# Altium footprint library Phoenix.PcbLib: 19 footprints (part 2 of 2)
Each footprint in its own frame and in the unit in brackets; x right, y up, seen from the top. Pads: shape width x height; smd on the part's side, far side on the other; paste and mask are expansions set on the pad; w line width, h text height; cw(c..) or ccw(c..) is an arc to the next point about the centre after c.
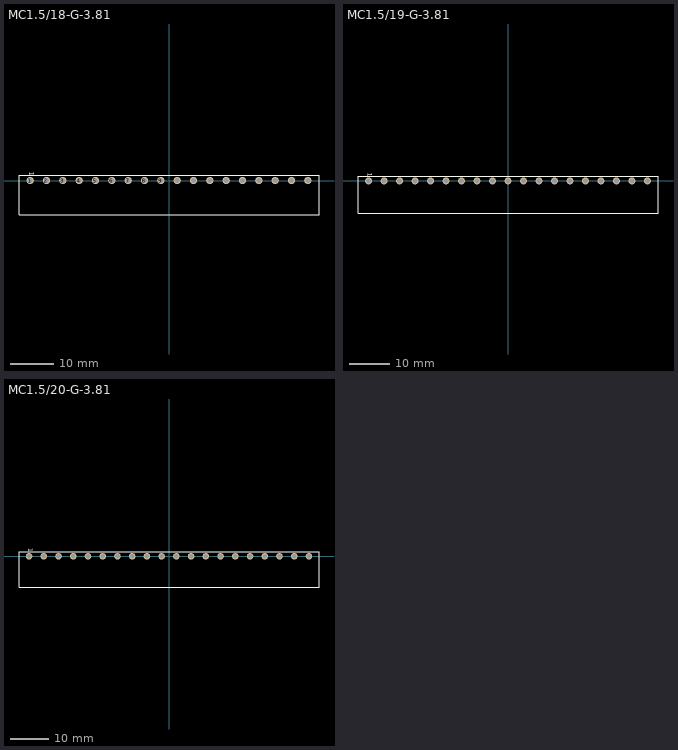
[diagram p1: the footprints below, top view; thin cyan lines are the x and y axes]

## MC1.5/18-G-3.81 [mm] "Phoenix contact MC 1,5/ 18-G-3,81"
pads (18):
  round 1.7 hole 1.2: 1(-32.385,0) 2(-28.575,0) 3(-24.765,0) 4(-20.955,0) 5(-17.145,0) 6(-13.335,0) 7(-9.525,0) 8(-5.715,0) 9(-1.905,0) 10(1.905,0) 11(5.715,0) 12(9.525,0) 13(13.335,0) 14(17.145,0) 15(20.955,0) 16(24.765,0) 17(28.575,0) 18(32.385,0)
Top Overlay:
  lines w0.2: -34.985,-8 -34.29,-8 -30.48,-8 -26.67,-8 -22.86,-8 -19.05,-8 -15.24,-8 -11.43,-8 -7.62,-8 -3.81,-8 0,-8 3.81,-8 7.62,-8 11.43,-8 15.24,-8 19.05,-8 22.86,-8 26.67,-8 30.48,-8 34.29,-8 34.985,-8 34.985,1.2 34.29,1.2 30.48,1.2 26.67,1.2 22.86,1.2 19.05,1.2 15.24,1.2 11.43,1.2 7.62,1.2 3.81,1.2 0,1.2 -3.81,1.2 -7.62,1.2 -11.43,1.2 -15.24,1.2 -19.05,1.2 -22.86,1.2 -26.67,1.2 -30.48,1.2 -34.29,1.2 -34.985,1.2 -34.985,-8
  text "1" at -33.028,2.036 h2
Bottom Overlay:
  text "1" at -33.028,1.064 h2
3D body: height 7.26, standoff 0.01, extent 30.48,-8 34.29,-1
3D body: height 3, standoff -3.4, extent 31.985,-0.4 32.785,0.4
3D body: height 3.4, standoff 2.6, extent 31.985,-7 32.785,0.4
3D body: height 7.25, standoff 0, extent 30.48,-1 34.29,1.2
3D body: height 7.26, standoff 0.01, extent 26.67,-8 30.48,-1
3D body: height 3, standoff -3.4, extent 28.175,-0.4 28.975,0.4
3D body: height 3.4, standoff 2.6, extent 28.175,-7 28.975,0.4
3D body: height 7.25, standoff 0, extent 26.67,-1 30.48,1.2
3D body: height 7.26, standoff 0.01, extent 22.86,-8 26.67,-1
3D body: height 3, standoff -3.4, extent 24.365,-0.4 25.165,0.4
3D body: height 3.4, standoff 2.6, extent 24.365,-7 25.165,0.4
3D body: height 7.25, standoff 0, extent 22.86,-1 26.67,1.2
3D body: height 7.26, standoff 0.01, extent 19.05,-8 22.86,-1
3D body: height 3, standoff -3.4, extent 20.555,-0.4 21.355,0.4
3D body: height 3.4, standoff 2.6, extent 20.555,-7 21.355,0.4
3D body: height 7.25, standoff 0, extent 19.05,-1 22.86,1.2
3D body: height 7.26, standoff 0.01, extent 15.24,-8 19.05,-1
3D body: height 3, standoff -3.4, extent 16.745,-0.4 17.545,0.4
3D body: height 3.4, standoff 2.6, extent 16.745,-7 17.545,0.4
3D body: height 7.25, standoff 0, extent 15.24,-1 19.05,1.2
3D body: height 7.25, standoff 0, extent 34.29,-8 34.985,1.2
3D body: height 7.26, standoff 0.01, extent 7.62,-8 11.43,-1
3D body: height 3, standoff -3.4, extent 9.125,-0.4 9.925,0.4
3D body: height 3.4, standoff 2.6, extent 9.125,-7 9.925,0.4
3D body: height 7.25, standoff 0, extent 7.62,-1 11.43,1.2
3D body: height 7.26, standoff 0.01, extent 3.81,-8 7.62,-1
3D body: height 3, standoff -3.4, extent 5.315,-0.4 6.115,0.4
3D body: height 3.4, standoff 2.6, extent 5.315,-7 6.115,0.4
3D body: height 7.25, standoff 0, extent 3.81,-1 7.62,1.2
3D body: height 7.26, standoff 0.01, extent 0,-8 3.81,-1
3D body: height 3, standoff -3.4, extent 1.505,-0.4 2.305,0.4
3D body: height 3.4, standoff 2.6, extent 1.505,-7 2.305,0.4
3D body: height 7.25, standoff 0, extent 0,-1 3.81,1.2
3D body: height 7.26, standoff 0.01, extent -3.81,-8 0,-1
3D body: height 3, standoff -3.4, extent -2.305,-0.4 -1.505,0.4
3D body: height 3.4, standoff 2.6, extent -2.305,-7 -1.505,0.4
3D body: height 7.25, standoff 0, extent -3.81,-1 0,1.2
3D body: height 7.26, standoff 0.01, extent -11.43,-8 -7.62,-1
3D body: height 3, standoff -3.4, extent -9.925,-0.4 -9.125,0.4
3D body: height 3.4, standoff 2.6, extent -9.925,-7 -9.125,0.4
3D body: height 7.25, standoff 0, extent -11.43,-1 -7.62,1.2
3D body: height 7.26, standoff 0.01, extent -15.24,-8 -11.43,-1
3D body: height 3, standoff -3.4, extent -13.735,-0.4 -12.935,0.4
3D body: height 3.4, standoff 2.6, extent -13.735,-7 -12.935,0.4
3D body: height 7.25, standoff 0, extent -15.24,-1 -11.43,1.2
3D body: height 7.26, standoff 0.01, extent -22.86,-8 -19.05,-1
3D body: height 3, standoff -3.4, extent -21.355,-0.4 -20.555,0.4
3D body: height 3.4, standoff 2.6, extent -21.355,-7 -20.555,0.4
3D body: height 7.25, standoff 0, extent -22.86,-1 -19.05,1.2
3D body: height 7.26, standoff 0.01, extent -26.67,-8 -22.86,-1
3D body: height 3, standoff -3.4, extent -25.165,-0.4 -24.365,0.4
3D body: height 3.4, standoff 2.6, extent -25.165,-7 -24.365,0.4
3D body: height 7.25, standoff 0, extent -26.67,-1 -22.86,1.2
3D body: height 7.26, standoff 0.01, extent -30.48,-8 -26.67,-1
3D body: height 3, standoff -3.4, extent -32.785,-0.4 -31.985,0.4
3D body: height 3, standoff -3.4, extent -28.975,-0.4 -28.175,0.4
3D body: height 3.4, standoff 2.6, extent -32.785,-7 -31.985,0.4
3D body: height 3.4, standoff 2.6, extent -28.975,-7 -28.175,0.4
3D body: height 7.25, standoff 0, extent -30.48,-1 -26.67,1.2
3D body: height 7.26, standoff 0.01, extent -34.29,-8 -30.48,-1
3D body: height 7.25, standoff 0, extent -34.29,-1 -30.48,1.2
3D body: height 7.25, standoff 0, extent -34.985,-8 -34.29,1.2
3D body: height 7.26, standoff 0.01, extent -19.05,-8 -15.24,-1
3D body: height 3, standoff -3.4, extent -17.545,-0.4 -16.745,0.4
3D body: height 3.4, standoff 2.6, extent -17.545,-7 -16.745,0.4
3D body: height 7.25, standoff 0, extent -19.05,-1 -15.24,1.2
3D body: height 7.26, standoff 0.01, extent -7.62,-8 -3.81,-1
3D body: height 3, standoff -3.4, extent -6.115,-0.4 -5.315,0.4
3D body: height 3.4, standoff 2.6, extent -6.115,-7 -5.315,0.4
3D body: height 7.25, standoff 0, extent -7.62,-1 -3.81,1.2
3D body: height 7.26, standoff 0.01, extent 11.43,-8 15.24,-1
3D body: height 3, standoff -3.4, extent 12.935,-0.4 13.735,0.4
3D body: height 3.4, standoff 2.6, extent 12.935,-7 13.735,0.4
3D body: height 7.25, standoff 0, extent 11.43,-1 15.24,1.2

## MC1.5/19-G-3.81 [mm] "Phoenix contact MC 1,5/ 19-G-3,81"
pads (19):
  round 1.7 hole 1.2: 1(-34.29,0) 2(-30.48,0) 3(-26.67,0) 4(-22.86,0) 5(-19.05,0) 6(-15.24,0) 7(-11.43,0) 8(-7.62,0) 9(-3.81,0) 10(0,0) 11(3.81,0) 12(7.62,0) 13(11.43,0) 14(15.24,0) 15(19.05,0) 16(22.86,0) 17(26.67,0) 18(30.48,0) 19(34.29,0)
Top Overlay:
  lines w0.2: -36.89,-8 -36.89,1.2 -36.195,1.2 -32.385,1.2 -28.575,1.2 -24.765,1.2 -20.955,1.2 -17.145,1.2 -13.335,1.2 -9.525,1.2 -5.715,1.2 -1.905,1.2 1.905,1.2 5.715,1.2 9.525,1.2 13.335,1.2 17.145,1.2 20.955,1.2 24.765,1.2 28.575,1.2 32.385,1.2 36.195,1.2 36.89,1.2 36.89,-8 36.195,-8 32.385,-8 28.575,-8 24.765,-8 20.955,-8 17.145,-8 13.335,-8 9.525,-8 5.715,-8 1.905,-8 -1.905,-8 -5.715,-8 -9.525,-8 -13.335,-8 -17.145,-8 -20.955,-8 -24.765,-8 -28.575,-8 -32.385,-8 -36.195,-8 -36.89,-8
  text "1" at -34.933,2.036 h2
Bottom Overlay:
  text "1" at -34.933,1.064 h2
3D body: height 7.25, standoff 0, extent 9.525,-1 13.335,1.2
3D body: height 3.4, standoff 2.6, extent 11.03,-7 11.83,0.4
3D body: height 3, standoff -3.4, extent 11.03,-0.4 11.83,0.4
3D body: height 7.26, standoff 0.01, extent 9.525,-8 13.335,-1
3D body: height 7.25, standoff 0, extent -9.525,-1 -5.715,1.2
3D body: height 3.4, standoff 2.6, extent -8.02,-7 -7.22,0.4
3D body: height 3, standoff -3.4, extent -8.02,-0.4 -7.22,0.4
3D body: height 7.26, standoff 0.01, extent -9.525,-8 -5.715,-1
3D body: height 7.25, standoff 0, extent -20.955,-1 -17.145,1.2
3D body: height 3.4, standoff 2.6, extent -19.45,-7 -18.65,0.4
3D body: height 3, standoff -3.4, extent -19.45,-0.4 -18.65,0.4
3D body: height 7.26, standoff 0.01, extent -20.955,-8 -17.145,-1
3D body: height 7.25, standoff 0, extent -36.89,-8 -36.195,1.2
3D body: height 7.25, standoff 0, extent -36.195,-1 -32.385,1.2
3D body: height 7.26, standoff 0.01, extent -36.195,-8 -32.385,-1
3D body: height 7.25, standoff 0, extent -32.385,-1 -28.575,1.2
3D body: height 3.4, standoff 2.6, extent -30.88,-7 -30.08,0.4
3D body: height 3.4, standoff 2.6, extent -34.69,-7 -33.89,0.4
3D body: height 3, standoff -3.4, extent -30.88,-0.4 -30.08,0.4
3D body: height 3, standoff -3.4, extent -34.69,-0.4 -33.89,0.4
3D body: height 7.26, standoff 0.01, extent -32.385,-8 -28.575,-1
3D body: height 7.25, standoff 0, extent -28.575,-1 -24.765,1.2
3D body: height 3.4, standoff 2.6, extent -27.07,-7 -26.27,0.4
3D body: height 3, standoff -3.4, extent -27.07,-0.4 -26.27,0.4
3D body: height 7.26, standoff 0.01, extent -28.575,-8 -24.765,-1
3D body: height 7.25, standoff 0, extent -24.765,-1 -20.955,1.2
3D body: height 3.4, standoff 2.6, extent -23.26,-7 -22.46,0.4
3D body: height 3, standoff -3.4, extent -23.26,-0.4 -22.46,0.4
3D body: height 7.26, standoff 0.01, extent -24.765,-8 -20.955,-1
3D body: height 7.25, standoff 0, extent -17.145,-1 -13.335,1.2
3D body: height 3.4, standoff 2.6, extent -15.64,-7 -14.84,0.4
3D body: height 3, standoff -3.4, extent -15.64,-0.4 -14.84,0.4
3D body: height 7.26, standoff 0.01, extent -17.145,-8 -13.335,-1
3D body: height 7.25, standoff 0, extent -13.335,-1 -9.525,1.2
3D body: height 3.4, standoff 2.6, extent -11.83,-7 -11.03,0.4
3D body: height 3, standoff -3.4, extent -11.83,-0.4 -11.03,0.4
3D body: height 7.26, standoff 0.01, extent -13.335,-8 -9.525,-1
3D body: height 7.25, standoff 0, extent -5.715,-1 -1.905,1.2
3D body: height 3.4, standoff 2.6, extent -4.21,-7 -3.41,0.4
3D body: height 3, standoff -3.4, extent -4.21,-0.4 -3.41,0.4
3D body: height 7.26, standoff 0.01, extent -5.715,-8 -1.905,-1
3D body: height 7.25, standoff 0, extent -1.905,-1 1.905,1.2
3D body: height 3.4, standoff 2.6, extent -0.4,-7 0.4,0.4
3D body: height 3, standoff -3.4, extent -0.4,-0.4 0.4,0.4
3D body: height 7.26, standoff 0.01, extent -1.905,-8 1.905,-1
3D body: height 7.25, standoff 0, extent 1.905,-1 5.715,1.2
3D body: height 3.4, standoff 2.6, extent 3.41,-7 4.21,0.4
3D body: height 3, standoff -3.4, extent 3.41,-0.4 4.21,0.4
3D body: height 7.26, standoff 0.01, extent 1.905,-8 5.715,-1
3D body: height 7.25, standoff 0, extent 5.715,-1 9.525,1.2
3D body: height 3.4, standoff 2.6, extent 7.22,-7 8.02,0.4
3D body: height 3, standoff -3.4, extent 7.22,-0.4 8.02,0.4
3D body: height 7.26, standoff 0.01, extent 5.715,-8 9.525,-1
3D body: height 7.25, standoff 0, extent 36.195,-8 36.89,1.2
3D body: height 7.25, standoff 0, extent 13.335,-1 17.145,1.2
3D body: height 3.4, standoff 2.6, extent 14.84,-7 15.64,0.4
3D body: height 3, standoff -3.4, extent 14.84,-0.4 15.64,0.4
3D body: height 7.26, standoff 0.01, extent 13.335,-8 17.145,-1
3D body: height 7.25, standoff 0, extent 17.145,-1 20.955,1.2
3D body: height 3.4, standoff 2.6, extent 18.65,-7 19.45,0.4
3D body: height 3, standoff -3.4, extent 18.65,-0.4 19.45,0.4
3D body: height 7.26, standoff 0.01, extent 17.145,-8 20.955,-1
3D body: height 7.25, standoff 0, extent 20.955,-1 24.765,1.2
3D body: height 3.4, standoff 2.6, extent 22.46,-7 23.26,0.4
3D body: height 3, standoff -3.4, extent 22.46,-0.4 23.26,0.4
3D body: height 7.26, standoff 0.01, extent 20.955,-8 24.765,-1
3D body: height 7.25, standoff 0, extent 24.765,-1 28.575,1.2
3D body: height 3.4, standoff 2.6, extent 26.27,-7 27.07,0.4
3D body: height 3, standoff -3.4, extent 26.27,-0.4 27.07,0.4
3D body: height 7.26, standoff 0.01, extent 24.765,-8 28.575,-1
3D body: height 7.25, standoff 0, extent 28.575,-1 32.385,1.2
3D body: height 3.4, standoff 2.6, extent 30.08,-7 30.88,0.4
3D body: height 3, standoff -3.4, extent 30.08,-0.4 30.88,0.4
3D body: height 7.26, standoff 0.01, extent 28.575,-8 32.385,-1
3D body: height 7.25, standoff 0, extent 32.385,-1 36.195,1.2
3D body: height 3.4, standoff 2.6, extent 33.89,-7 34.69,0.4
3D body: height 3, standoff -3.4, extent 33.89,-0.4 34.69,0.4
3D body: height 7.26, standoff 0.01, extent 32.385,-8 36.195,-1

## MC1.5/20-G-3.81 [mm] "Phoenix contact MC 1,5/ 20-G-3,81"
pads (20):
  round 1.7 hole 1.2: 1(-36.195,0) 2(-32.385,0) 3(-28.575,0) 4(-24.765,0) 5(-20.955,0) 6(-17.145,0) 7(-13.335,0) 8(-9.525,0) 9(-5.715,0) 10(-1.905,0) 11(1.905,0) 12(5.715,0) 13(9.525,0) 14(13.335,0) 15(17.145,0) 16(20.955,0) 17(24.765,0) 18(28.575,0) 19(32.385,0) 20(36.195,0)
Top Overlay:
  lines w0.2: -38.795,-8 -38.1,-8 -34.29,-8 -30.48,-8 -26.67,-8 -22.86,-8 -19.05,-8 -15.24,-8 -11.43,-8 -7.62,-8 -3.81,-8 0,-8 3.81,-8 7.62,-8 11.43,-8 15.24,-8 19.05,-8 22.86,-8 26.67,-8 30.48,-8 34.29,-8 38.1,-8 38.795,-8 38.795,1.2 38.1,1.2 34.29,1.2 30.48,1.2 26.67,1.2 22.86,1.2 19.05,1.2 15.24,1.2 11.43,1.2 7.62,1.2 3.81,1.2 0,1.2 -3.81,1.2 -7.62,1.2 -11.43,1.2 -15.24,1.2 -19.05,1.2 -22.86,1.2 -26.67,1.2 -30.48,1.2 -34.29,1.2 -38.1,1.2 -38.795,1.2 -38.795,-8
  text "1" at -36.838,2.036 h2
Bottom Overlay:
  text "1" at -36.838,1.064 h2
3D body: height 7.26, standoff 0.01, extent 30.48,-8 34.29,-1
3D body: height 3, standoff -3.4, extent 31.985,-0.4 32.785,0.4
3D body: height 3.4, standoff 2.6, extent 31.985,-7 32.785,0.4
3D body: height 7.25, standoff 0, extent 30.48,-1 34.29,1.2
3D body: height 7.26, standoff 0.01, extent 26.67,-8 30.48,-1
3D body: height 3, standoff -3.4, extent 28.175,-0.4 28.975,0.4
3D body: height 3.4, standoff 2.6, extent 28.175,-7 28.975,0.4
3D body: height 7.25, standoff 0, extent 26.67,-1 30.48,1.2
3D body: height 7.26, standoff 0.01, extent 22.86,-8 26.67,-1
3D body: height 3, standoff -3.4, extent 24.365,-0.4 25.165,0.4
3D body: height 3.4, standoff 2.6, extent 24.365,-7 25.165,0.4
3D body: height 7.25, standoff 0, extent 22.86,-1 26.67,1.2
3D body: height 7.26, standoff 0.01, extent 19.05,-8 22.86,-1
3D body: height 3, standoff -3.4, extent 20.555,-0.4 21.355,0.4
3D body: height 3.4, standoff 2.6, extent 20.555,-7 21.355,0.4
3D body: height 7.25, standoff 0, extent 19.05,-1 22.86,1.2
3D body: height 7.26, standoff 0.01, extent 15.24,-8 19.05,-1
3D body: height 3, standoff -3.4, extent 16.745,-0.4 17.545,0.4
3D body: height 3.4, standoff 2.6, extent 16.745,-7 17.545,0.4
3D body: height 7.25, standoff 0, extent 15.24,-1 19.05,1.2
3D body: height 7.26, standoff 0.01, extent 11.43,-8 15.24,-1
3D body: height 3, standoff -3.4, extent 12.935,-0.4 13.735,0.4
3D body: height 3.4, standoff 2.6, extent 12.935,-7 13.735,0.4
3D body: height 7.25, standoff 0, extent 11.43,-1 15.24,1.2
3D body: height 7.25, standoff 0, extent 38.1,-8 38.795,1.2
3D body: height 7.26, standoff 0.01, extent 3.81,-8 7.62,-1
3D body: height 3, standoff -3.4, extent 5.315,-0.4 6.115,0.4
3D body: height 3.4, standoff 2.6, extent 5.315,-7 6.115,0.4
3D body: height 7.25, standoff 0, extent 3.81,-1 7.62,1.2
3D body: height 7.26, standoff 0.01, extent 0,-8 3.81,-1
3D body: height 3, standoff -3.4, extent 1.505,-0.4 2.305,0.4
3D body: height 3.4, standoff 2.6, extent 1.505,-7 2.305,0.4
3D body: height 7.25, standoff 0, extent 0,-1 3.81,1.2
3D body: height 7.26, standoff 0.01, extent -3.81,-8 0,-1
3D body: height 3, standoff -3.4, extent -2.305,-0.4 -1.505,0.4
3D body: height 3.4, standoff 2.6, extent -2.305,-7 -1.505,0.4
3D body: height 7.25, standoff 0, extent -3.81,-1 0,1.2
3D body: height 7.26, standoff 0.01, extent -7.62,-8 -3.81,-1
3D body: height 3, standoff -3.4, extent -6.115,-0.4 -5.315,0.4
3D body: height 3.4, standoff 2.6, extent -6.115,-7 -5.315,0.4
3D body: height 7.25, standoff 0, extent -7.62,-1 -3.81,1.2
3D body: height 7.26, standoff 0.01, extent -15.24,-8 -11.43,-1
3D body: height 3, standoff -3.4, extent -13.735,-0.4 -12.935,0.4
3D body: height 3.4, standoff 2.6, extent -13.735,-7 -12.935,0.4
3D body: height 7.25, standoff 0, extent -15.24,-1 -11.43,1.2
3D body: height 7.26, standoff 0.01, extent -19.05,-8 -15.24,-1
3D body: height 3, standoff -3.4, extent -17.545,-0.4 -16.745,0.4
3D body: height 3.4, standoff 2.6, extent -17.545,-7 -16.745,0.4
3D body: height 7.25, standoff 0, extent -19.05,-1 -15.24,1.2
3D body: height 7.26, standoff 0.01, extent -26.67,-8 -22.86,-1
3D body: height 3, standoff -3.4, extent -25.165,-0.4 -24.365,0.4
3D body: height 3.4, standoff 2.6, extent -25.165,-7 -24.365,0.4
3D body: height 7.25, standoff 0, extent -26.67,-1 -22.86,1.2
3D body: height 7.26, standoff 0.01, extent -30.48,-8 -26.67,-1
3D body: height 3, standoff -3.4, extent -28.975,-0.4 -28.175,0.4
3D body: height 3.4, standoff 2.6, extent -28.975,-7 -28.175,0.4
3D body: height 7.25, standoff 0, extent -30.48,-1 -26.67,1.2
3D body: height 7.26, standoff 0.01, extent -34.29,-8 -30.48,-1
3D body: height 3, standoff -3.4, extent -36.595,-0.4 -35.795,0.4
3D body: height 3, standoff -3.4, extent -32.785,-0.4 -31.985,0.4
3D body: height 3.4, standoff 2.6, extent -36.595,-7 -35.795,0.4
3D body: height 3.4, standoff 2.6, extent -32.785,-7 -31.985,0.4
3D body: height 7.25, standoff 0, extent -34.29,-1 -30.48,1.2
3D body: height 7.26, standoff 0.01, extent -38.1,-8 -34.29,-1
3D body: height 7.25, standoff 0, extent -38.1,-1 -34.29,1.2
3D body: height 7.25, standoff 0, extent -38.795,-8 -38.1,1.2
3D body: height 7.26, standoff 0.01, extent -22.86,-8 -19.05,-1
3D body: height 3, standoff -3.4, extent -21.355,-0.4 -20.555,0.4
3D body: height 3.4, standoff 2.6, extent -21.355,-7 -20.555,0.4
3D body: height 7.25, standoff 0, extent -22.86,-1 -19.05,1.2
3D body: height 7.26, standoff 0.01, extent -11.43,-8 -7.62,-1
3D body: height 3, standoff -3.4, extent -9.925,-0.4 -9.125,0.4
3D body: height 3.4, standoff 2.6, extent -9.925,-7 -9.125,0.4
3D body: height 7.25, standoff 0, extent -11.43,-1 -7.62,1.2
3D body: height 7.26, standoff 0.01, extent 7.62,-8 11.43,-1
3D body: height 3, standoff -3.4, extent 9.125,-0.4 9.925,0.4
3D body: height 3.4, standoff 2.6, extent 9.125,-7 9.925,0.4
3D body: height 7.25, standoff 0, extent 7.62,-1 11.43,1.2
3D body: height 7.26, standoff 0.01, extent 34.29,-8 38.1,-1
3D body: height 3, standoff -3.4, extent 35.795,-0.4 36.595,0.4
3D body: height 3.4, standoff 2.6, extent 35.795,-7 36.595,0.4
3D body: height 7.25, standoff 0, extent 34.29,-1 38.1,1.2